# Altium footprint library 底盘.PcbLib: 33 footprints (part 3 of 3)
Each footprint in its own frame and in the unit in brackets; x right, y up, seen from the top. Pads: shape width x height; smd on the part's side, far side on the other; paste and mask are expansions set on the pad; w line width, h text height; cw(c..) or ccw(c..) is an arc to the next point about the centre after c.
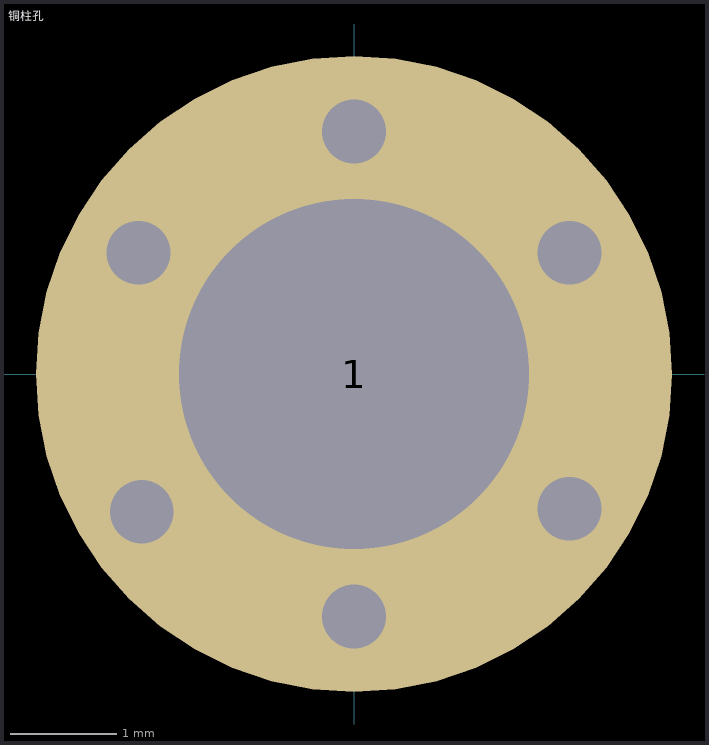
[diagram p2: the footprint, top view; thin cyan lines are the x and y axes]

## 铜柱孔 [mm]
height 5
pads (1):
  round 6 hole 3.3: 1(0,0)
via -2,-1.3 diameter 0.6 hole 0.6
via -2.032,1.143 diameter 0.6 hole 0.6
via 0,2.286 diameter 0.6 hole 0.6
via 2.032,1.143 diameter 0.6 hole 0.6
via 2.032,-1.27 diameter 0.6 hole 0.6
via 0,-2.286 diameter 0.6 hole 0.6